# Altium schematic symbol library SMBT2222A.Schlib: 1 symbol
Pins are listed as number, name and electrical type; pins without a type are passive.

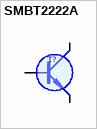
[diagram p0: symbol SMBT2222A]

## SMBT2222A
designator T?
SOT23    40V 0.6A 25/60nS 300MHz 5p(10V)
pins: 1 B, 2 E (oe), 3 C (oc)
1 alternate drawing of the same symbol